# Altium footprint library MagJack.PcbLib: 1 footprints
Each footprint in its own frame and in the unit in brackets; x right, y up, seen from the top. Pads: shape width x height; smd on the part's side, far side on the other; paste and mask are expansions set on the pad; w line width, h text height; cw(c..) or ccw(c..) is an arc to the next point about the centre after c.
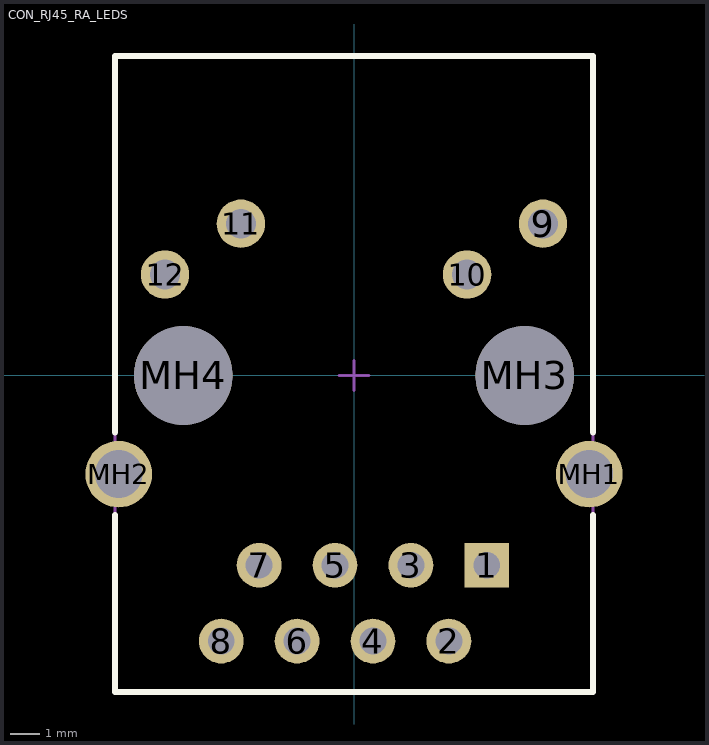
[diagram p0: the footprint, top view; thin cyan lines are the x and y axes]

## CON_RJ45_RA_LEDS [mm]
height 14.22
pads (16):
  rect 1.5x1.5 hole 0.9: 1(4.445,-6.35)
  round 1.5 hole 0.9: 2(3.175,-8.89) 3(1.905,-6.35) 4(0.635,-8.89) 5(-0.635,-6.35) 6(-1.905,-8.89) 7(-3.175,-6.35) 8(-4.445,-8.89)
  round 1.62 hole 1: 9(6.325,5.08) 10(3.785,3.38) 11(-3.785,5.08) 12(-6.325,3.38)
  round 2.23 hole 1.6: MH1(7.875,-3.3) MH2(-7.875,-3.3)
  round 3.3 hole 3.3 unplated: MH3(5.715,0) MH4(-5.715,0)
Top Overlay:
  lines w0.2: -8,-4.665 -8,-10.6 8,-10.6 8,-4.665 ; -8,-1.905 -8,10.7 8,10.7 8,-1.905
Mechanical 13:
  lines w0.1: -8,-10.6 8,-10.6 8,10.7 -8,10.7 -8,-10.6
Mechanical 15:
  lines w0.1: -0.5,0 0.5,0 ; 0,-0.5 0,0.5